# Altium footprint library PcbLib1.PcbLib: 7 footprints
Each footprint in its own frame and in the unit in brackets; x right, y up, seen from the top. Pads: shape width x height; smd on the part's side, far side on the other; paste and mask are expansions set on the pad; w line width, h text height; cw(c..) or ccw(c..) is an arc to the next point about the centre after c.
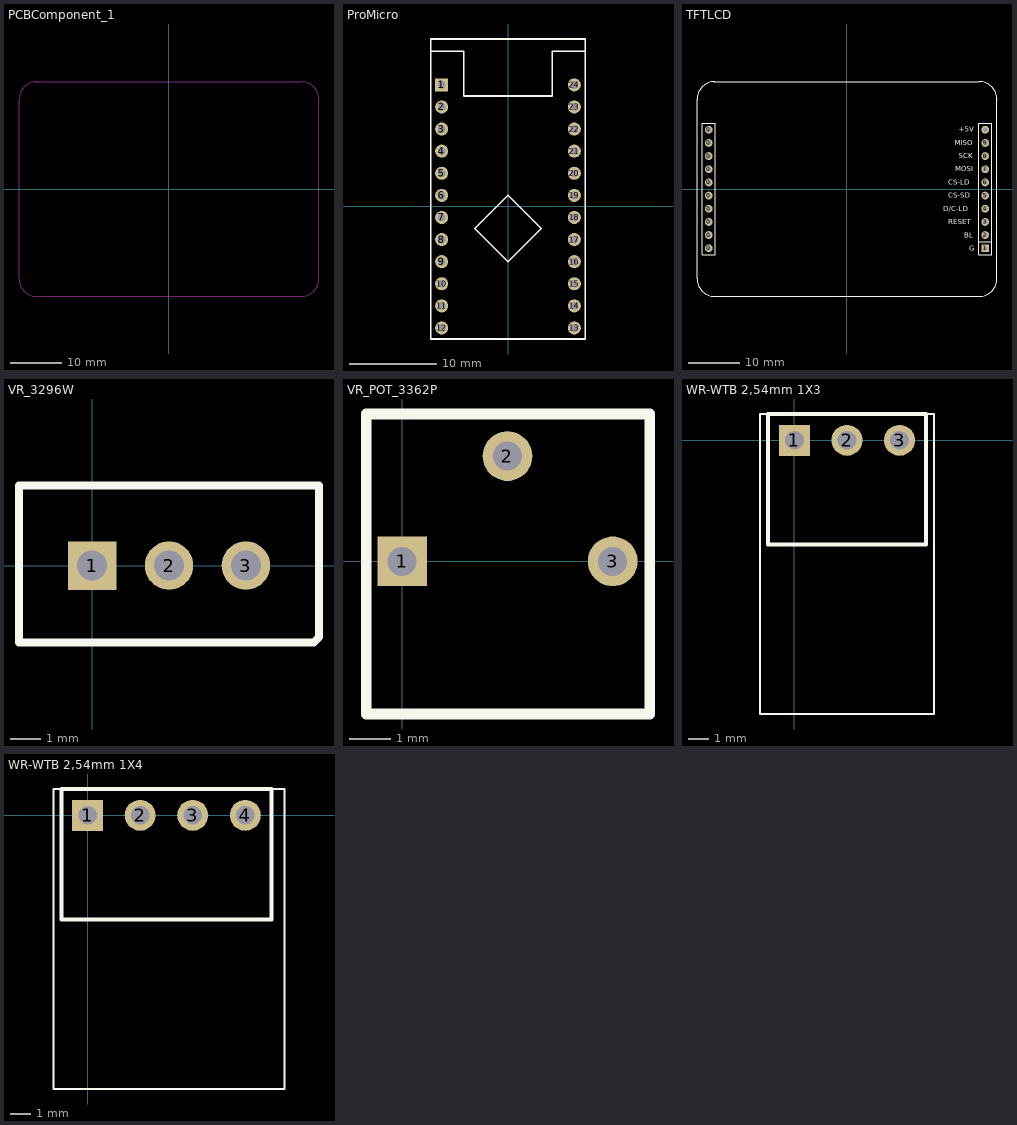
[diagram p0: the footprints below, top view; thin cyan lines are the x and y axes]

## PCBComponent_1 [mm]
Keep-Out Layer:
  lines w0.2: -25.66,20.71 25.54,20.71 cw(c25.54,17.296) 28.954,17.296 ; -25.526,20.71 ccw(c-25.526,17.296) -28.94,17.296 -28.94,-17.296 ccw(c-25.526,-17.296) -25.526,-20.71 25.526,-20.71 ccw(c25.526,-17.296) 28.94,-17.296 28.94,17.296

## ProMicro [mm]
pads (24):
  rect 1.5x1.5 hole 0.9: 1(-7.62,13.97)
  round 1.5 hole 0.9: 2(-7.62,11.43) 3(-7.62,8.89) 4(-7.62,6.35) 5(-7.62,3.81) 6(-7.62,1.27) 7(-7.62,-1.27) 8(-7.62,-3.81) 9(-7.62,-6.35) 10(-7.62,-8.89) 11(-7.62,-11.43) 12(-7.62,-13.97) 13(7.62,-13.97) 14(7.62,-11.43) 15(7.62,-8.89) 16(7.62,-6.35) 17(7.62,-3.81) 18(7.62,-1.27) 19(7.62,1.27) 20(7.62,3.81) 21(7.62,6.35) 22(7.62,8.89) 23(7.62,11.43) 24(7.62,13.97)
Top Overlay:
  lines w0.2: 8.89,17.84 5.08,17.84 5.08,12.7 -5.08,12.7 -5.08,17.84 -8.89,17.84 ; -8.89,17.84 -8.89,-15.24 8.89,-15.24 8.89,19.24 -8.89,19.24 -8.89,17.84 ; -3.81,-2.54 0,1.27 3.81,-2.54 0,-6.35 -3.81,-2.54

## TFTLCD [mm]
pads (20):
  round 1.5 hole 0.9: 0(-26.67,-11.43) 0(-26.67,-8.89) 0(-26.67,-6.35) 0(-26.67,-3.81) 0(-26.67,-1.27) 0(-26.67,1.27) 0(-26.67,3.81) 0(-26.67,6.35) 0(-26.67,8.89) 0(-26.67,11.43) 2(26.67,-8.89) 3(26.67,-6.35) 4(26.67,-3.81) 5(26.67,-1.27) 6(26.67,1.27) 7(26.67,3.81) 8(26.67,6.35) 9(26.67,8.89) 10(26.67,11.43)
  rect 1.5x1.5 hole 0.9: 1(26.67,-11.43)
Top Overlay:
  lines w0.2: -27.94,-12.71 -25.4,-12.71 ; -27.94,-12.7 -27.94,12.7 ; -27.94,12.71 -25.4,12.71 ; -25.66,20.71 25.54,20.71 cw(c25.54,17.296) 28.954,17.296 ; -25.526,20.71 ccw(c-25.526,17.296) -28.94,17.296 -28.94,-17.296 ccw(c-25.526,-17.296) -25.526,-20.71 25.526,-20.71 ccw(c25.526,-17.296) 28.94,-17.296 28.94,17.296 ; -25.4,-12.7 -25.4,-10.795 -25.4,12.7 ; 25.4,-12.71 27.94,-12.71 ; 25.4,-12.7 25.4,-10.795 25.4,12.7 ; 25.4,-10.15 27.94,-10.15 ; 25.4,12.71 27.94,12.71 ; 27.94,-12.7 27.94,-10.795 27.94,12.7
  text "BL" at 22.59,-9.378 h1
  text "RESET" at 19.591,-6.825 h1
  text "D/C-LD" at 18.591,-4.273 h1
  text "CS-SD" at 19.591,-1.721 h1
  text "CS-LD" at 19.591,0.831 h1
  text "MOSI" at 20.924,3.383 h1
  text "SCK" at 21.59,5.936 h1
  text "MISO" at 20.757,8.488 h1
  text "+5V" at 21.59,11.04 h1
  text "G" at 23.589,-11.93 h1

## VR_3296W [mm]
pads (3):
  rect 1.6x1.6 hole 1: 1(0,0)
  round 1.6 hole 1: 2(2.54,0) 3(5.08,0)
Top Overlay:
  lines w0.254: -2.413,-2.54 -2.413,2.642 7.493,2.642 7.493,-2.362 7.315,-2.54 -2.413,-2.54
3D body: height 11.62, standoff -6.33, extent -2.222,-2.388 7.302,2.438

## VR_POT_3362P [mm]
pads (3):
  rect 1.2x1.2 hole 0.7: 1(0,0)
  round 1.2 hole 0.7: 2(2.54,2.54) 3(5.08,0)
Top Overlay:
  lines w0.254: -0.864,-3.683 -0.864,-3.607 -0.864,3.556 5.969,3.556 5.969,-3.683 -0.864,-3.683
3D body: height 4.7, standoff -5.46, extent -0.762,-3.531 5.842,3.454

## WR-WTB 2,54mm 1X3 [mm] "WR-WTB 2,54mm"
pads (3):
  rect 1.5x1.5 hole 0.9: 1(0,0)
  round 1.5 hole 0.9: 2(2.54,0) 3(5.08,0)
Top Overlay:
  lines w0.1: -1.66,-13.23 6.74,-13.23 6.74,1.27 -1.66,1.27 -1.66,-13.23
  lines w0.2: -1.27,-5.029 -1.27,1.27 6.35,1.27 6.35,-5.029 -1.27,-5.029
3D body: height 5.9, standoff -2.9, extent -1.27,-13.215 6.35,0.305

## WR-WTB 2,54mm 1X4 [mm] "WR-WTB 2.54 mm Male Locking Header"
pads (4):
  rect 1.5x1.5 hole 0.9: 1(0,0)
  round 1.5 hole 0.9: 2(2.54,0) 3(5.08,0) 4(7.62,0)
Top Overlay:
  lines w0.1: -1.66,-13.23 -1.66,1.27 9.525,1.27 9.525,-13.23 -1.66,-13.23
  lines w0.2: -1.27,-5.029 8.89,-5.029 8.89,1.27 -1.27,1.27 -1.27,-5.029
3D body: height 5.9, standoff -2.9, extent -1.27,-13.215 6.35,0.305